# EAGLE library part LTC4307 (library linear-technology)
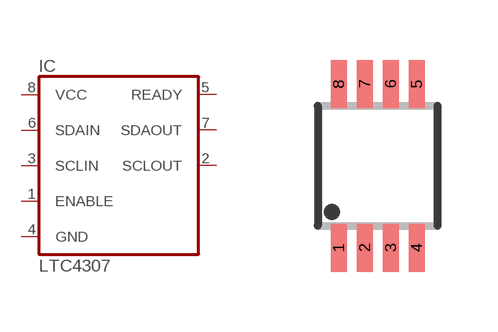
[diagram p0: symbol with the pads of MSOP8; footprint MSOP8]

Designator prefix IC

## LTC4307  [MSOP8]
1  ENABLE  oc
2  SCLOUT  oc
3  SCLIN  oc
4  GND  pwr
5  READY  out
6  SDAIN  oc
7  SDAOUT
8  VCC  pwr

## Footprint MSOP8 (pad centres in mm)
MSOP8
smd 0.4 x 1.2: 1 -0.975,-2.05; 2 -0.325,-2.05; 3 0.325,-2.05; 4 0.975,-2.05; 5 0.975,2.05; 6 0.325,2.05; 7 -0.325,2.05; 8 -0.975,2.05